# Altium footprint library Elreg_OCXO_Test_Board.PcbLib: 25 footprints (part 1 of 2)
Each footprint in its own frame and in the unit in brackets; x right, y up, seen from the top. Pads: shape width x height; smd on the part's side, far side on the other; paste and mask are expansions set on the pad; w line width, h text height; cw(c..) or ccw(c..) is an arc to the next point about the centre after c.
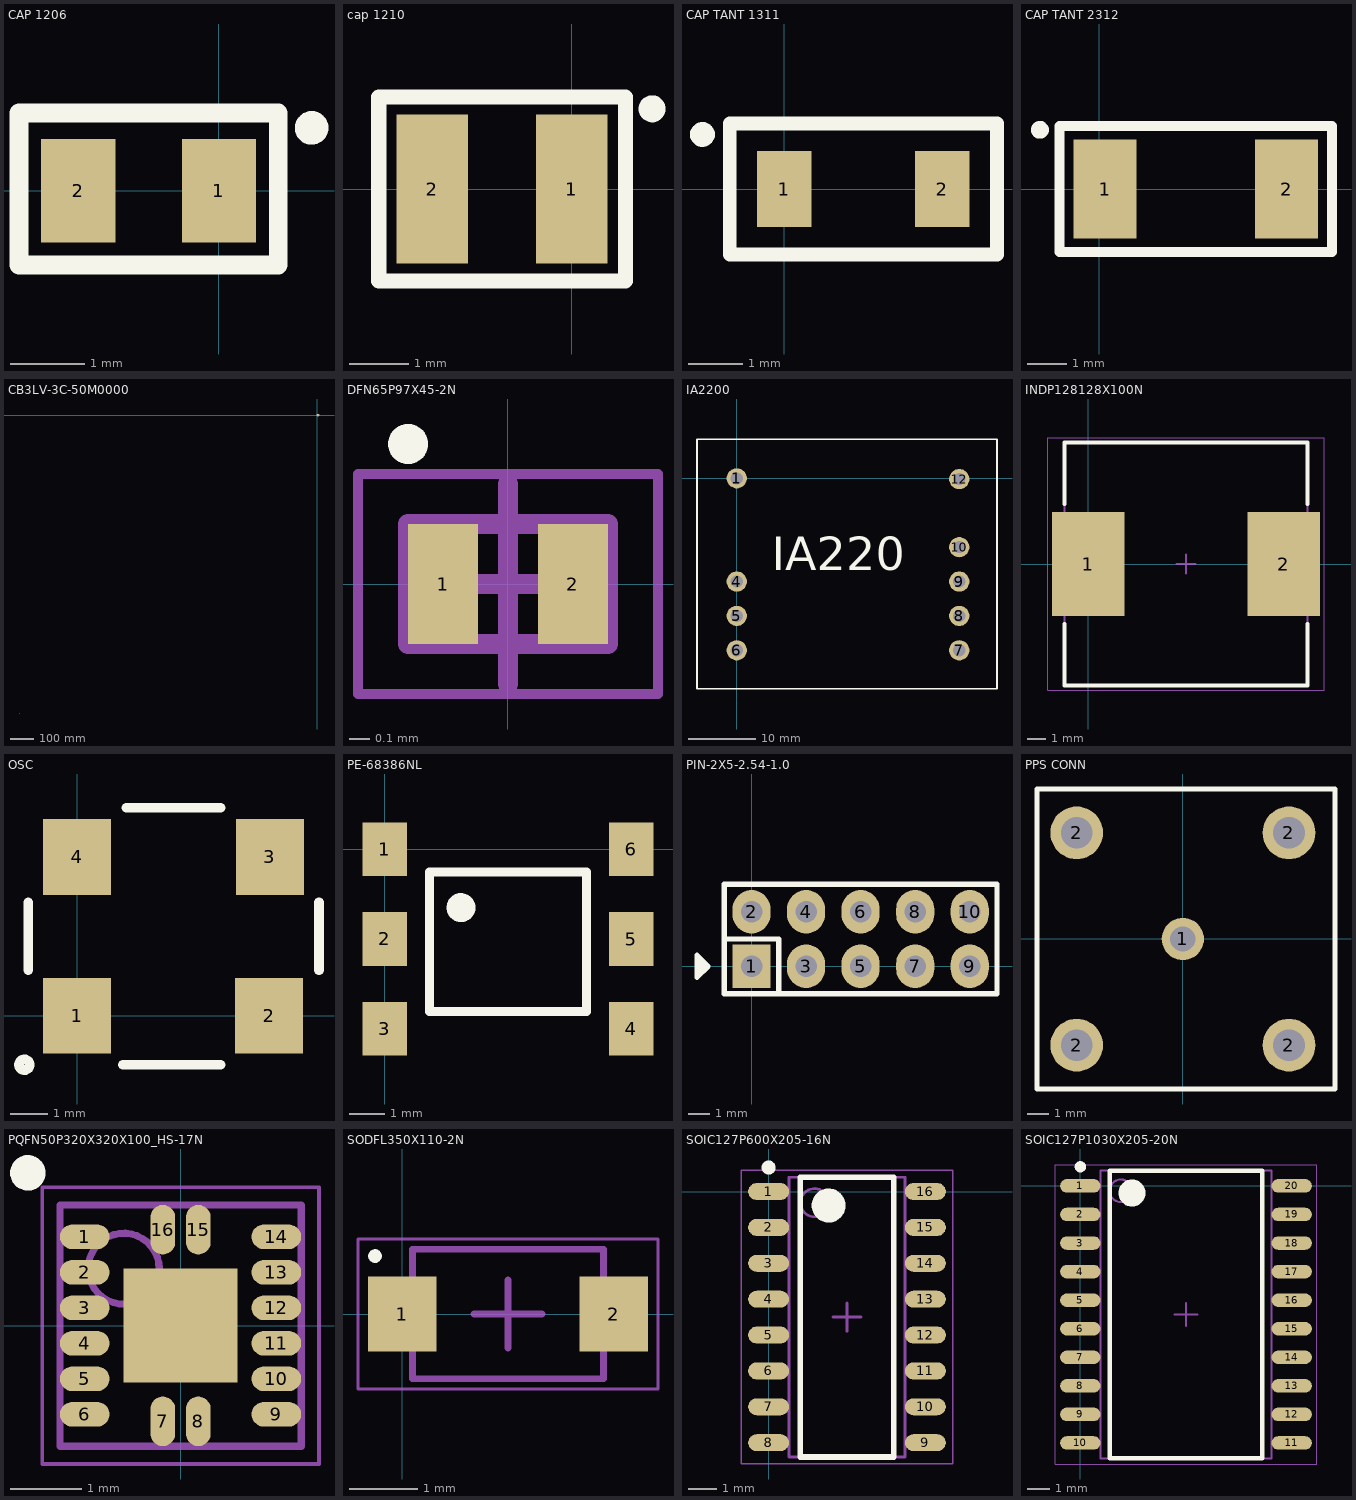
[diagram p0: the footprints below, top view; thin cyan lines are the x and y axes]

## CAP 1206 [mm]
pads (2):
  rect 1x1.4 smd: 1(0,0) 2(-1.9,0)
Top Overlay:
  circle w0.254: c1.25,0.85 r0.1
  lines w0.254: -2.7,-1 -2.7,1.05 0.8,1.05 0.8,-1 -2.7,-1

## cap 1210 [mm]
pads (2):
  rect 1.2x2.5 smd: 1(0,0) 2(-2.35,0)
Top Overlay:
  circle w0.254: c1.35,1.35 r0.1
  lines w0.254: -3.25,-1.55 -3.25,1.55 0.9,1.55 0.9,-1.55 -3.25,-1.55

## CAP TANT 1311 [mm]
pads (2):
  rect 1x1.4 smd: 1(0,0) 2(2.9,0)
Top Overlay:
  circle w0.254: c-1.5,1 r0.1
  lines w0.254: -1,-1.2 -1,1.2 3.9,1.2 3.9,-1.2 -1,-1.2
3D body "75389.stp": height 2.11, standoff 0.01, extent -0.45,-1.5 3.25,1.5

## CAP TANT 2312 [mm]
pads (2):
  rect 1.6x2.5 smd: 1(0.15,0) 2(4.75,0)
Top Overlay:
  circle w0.254: c-1.5,1.5 r0.1
  lines w0.254: -1,-1.6 -1,1.6 5.9,1.6 5.9,-1.6 -1,-1.6
3D body "User Library-AVX_C_CASE.step": height 2.7, standoff 0, extent -0.65,-1.675 5.45,1.675

## CB3LV-3C-50M0000 [mm]
pads (6):
  rect 0.4x0.7 all layers, no hole: 1(-1260.3,-1259.3) 2(-1259.6,-1259.3)
  rect 1.8x2 smd: 1(0,0) 2(5.08,0) 3(5.1,4.2) 4(0,4.2)
Top Overlay:
  circle w0.254: c-1.4,-1.3 r0.141
  lines w0.254: -1260.1,-1259.9 -1259.8,-1259.9 ; -1260.1,-1258.7 -1259.8,-1258.7 ; -1.3,1.2 -1.3,3 ; 1.2,-1.3 3.8,-1.3 ; 1.3,5.5 3.8,5.5 ; 6.4,1.2 6.4,3
3D body "User Library-ECS-3951.step": height 1.7, standoff 0, extent -0.9,-0.401 6.1,4.601

## DFN65P97X45-2N [mm] "DFN, 2-Leads, Body 0.58x0.97mm, Pitch 0.65mm, IPC Medium Density"
height 0.45
pads (2):
  rect 0.35x0.6 smd: 1(-0.325,0) 2(0.325,0)
Top Overlay:
  circle w0.1: c-0.5,0.7 r0.05
Mechanical 13:
  lines w0.1: -0.5,-0.3 -0.5,0.3 0.5,0.3 0.5,-0.3 -0.5,-0.3
Mechanical 15:
  lines w0.05: -0.75,-0.55 -0.75,0.55 0.75,0.55 0.75,-0.55 -0.75,-0.55
  lines w0.1: -0.5,0 0.5,0 ; 0,-0.5 0,0.5
3D body: height 0.45, standoff 0, extent -0.5,-0.3 0.5,0.3

## IA2200 [mm]
pads (9):
  round 3 hole 1.8: 1(0,0) 4(0,-15.3) 5(0,-20.4) 6(0,-25.5) 7(33,-25.5) 8(33,-20.4) 9(33,-15.3) 10(33,-10.2) 12(33,-0.1)
Top Overlay:
  lines w0.254: -5.9,-31.2 -5.9,5.8 30.8,5.8 38.6,5.8 38.6,-31.2 -5.9,-31.2
  text "IA220" at 5.2,-13.6 h5

## INDP128128X100N [mm] "Precision Wire Wound Inductor, 2-Leads, Body 12.80x12.80mm, IPC Medium Density"
height 10
pads (2):
  rect 3.8x5.5 smd: 1(0,0) 2(10.3,0)
Top Overlay:
  lines w0.2: -1.25,-3.15 -1.25,-6.4 11.55,-6.4 11.55,-3.15 ; -1.25,3.15 -1.25,6.4 11.55,6.4 11.55,3.15
Mechanical 13:
  lines w0.1: -1.25,-6.4 -1.25,6.4 11.55,6.4 11.55,-6.4 -1.25,-6.4
Mechanical 15:
  lines w0.05: -2.125,-6.65 -2.125,6.65 12.425,6.65 12.425,-6.65 -2.125,-6.65
  lines w0.1: 4.65,0 5.65,0 ; 5.15,-0.5 5.15,0.5
3D body "Coilcraft-MSS1038.step": height 3.9, standoff -0.1, extent 0.1,-5 10.4,5.2

## OSC [mm]
pads (4):
  rect 1.8x2 smd: 1(0,0) 2(5.08,0) 3(5.1,4.2) 4(0,4.2)
Top Overlay:
  circle w0.254: c-1.4,-1.3 r0.141
  lines w0.254: -1.3,1.2 -1.3,3 ; 1.2,-1.3 3.8,-1.3 ; 1.3,5.5 3.8,5.5 ; 6.4,1.2 6.4,3
3D body "User Library-ECS-3951.step": height 1.7, standoff 0, extent -0.9,-0.401 6.1,4.601

## PE-68386NL [mm]
pads (6):
  rect 1.27x1.52 smd: 1(0,0) 2(0,-2.54) 3(0,-5.08) 4(6.985,-5.08) 5(6.985,-2.54) 6(6.985,0)
Top Overlay:
  circle w0.254: c2.159,-1.651 r0.284
  lines w0.254: 2.032,-1.651 2.443,-1.651 2.286,-1.651 2.159,-1.778 ; 2.159,-1.524 2.159,-1.397 ; 2.159,-1.778 2.159,-1.905 2.159,-1.778 ; 1.27,-4.6 5.715,-4.6 5.715,-0.635 1.27,-0.635 1.27,-4.6

## PIN-2X5-2.54-1.0 [mil] "Pin Header"
height 374.02
pads (10):
  rect 70x80 hole 39.37: 1(0,0)
  oval 70x80 hole 39.37: 2(0,100) 3(100,0) 4(100,100) 5(200,0) 6(200,100) 7(300,0) 8(300,100) 9(400,0) 10(400,100)
Top Overlay:
  lines w10: -90,-10 -90,10 ; -50,50 50,50 50,-50 ; -100,-20 -100,20 -80,0 -100,-20 ; -50,-50 450,-50 450,150 -50,150 -50,-50
3D body "PIN2X5_100mils.STEP": height 397.64, standoff -59.06, extent -50,-50 450,150

## PPS CONN [mm]
pads (5):
  round 2 hole 1.2: 1(0,0)
  round 2.5 hole 1.5: 2(-5.025,-5.025) 2(-5.025,5.025) 2(5.025,-5.025) 2(5.025,5.025)
Top Overlay:
  lines w0.254: -6.9,-7.1 -6.9,7.1 7.2,7.1 7.2,-7.1 -6.9,-7.1
3D body "1274572-1.stp": height 10.51, standoff -4.57, extent -3.872,-11.567 3.672,3.8

## PQFN50P320X320X100_HS-17N [mm] "PQFN, 16-Leads, Body 3.20x3.20mm, Pitch 0.50mm, Thermal Pad 1.60x1.60mm, IPC Medium Density"
height 1
pads (17):
  oval 0.7x0.35 smd: 1(-1.35,1.25) 2(-1.35,0.75) 3(-1.35,0.25) 4(-1.35,-0.25) 5(-1.35,-0.75) 6(-1.35,-1.25) 9(1.35,-1.25) 10(1.35,-0.75) 11(1.35,-0.25) 12(1.35,0.25) 13(1.35,0.75) 14(1.35,1.25)
  oval 0.35x0.7 smd: 7(-0.25,-1.35) 8(0.25,-1.35) 15(0.25,1.35) 16(-0.25,1.35)
  rect 1.6x1.6 smd: ""(0,0)
Top Overlay:
  circle w0.25: c-2.15,2.15 r0.125
Mechanical 13:
  circle w0.1: c-0.8,0.8 r0.5
  lines w0.1: -1.7,-1.7 1.7,-1.7 1.7,1.7 -1.7,1.7 -1.7,-1.7
Mechanical 15:
  lines w0.05: -1.95,-1.95 1.95,-1.95 1.95,1.95 -1.95,1.95 -1.95,-1.95
  lines w0.1: -0.5,0 0.5,0 ; 0,-0.5 0,0.5
3D body: height 1, standoff 0, extent -1.7,-1.7 1.7,1.7

## SODFL350X110-2N [mm] "SODFL, 2-Leads, Body 1.70x3.50mm, IPC Medium Density"
height 1.1
pads (2):
  rect 1x1.1 smd: 1(0,0) 2(3.1,0)
Top Overlay:
  circle w0.1: c-0.4,0.85 r0.05
Mechanical 13:
  lines w0.1: 0.15,-0.95 2.95,-0.95 2.95,0.95 0.15,0.95 0.15,-0.95
Mechanical 15:
  lines w0.05: -0.65,-1.1 3.75,-1.1 3.75,1.1 -0.65,1.1 -0.65,-1.1
  lines w0.1: 1.05,0 2.05,0 ; 1.55,-0.5 1.55,0.5
3D body: height 1.1, standoff 0, extent 0.15,-0.95 2.95,0.95

## SOIC127P600X205-16N [mm] "SOIC, 16-Leads, Body 10.05x3.90mm, Pitch 1.27mm, IPC Medium Density"
height 2.05
pads (16):
  oval 1.45x0.6 smd: 1(0,0) 2(0,-1.27) 3(0,-2.54) 4(0,-3.81) 5(0,-5.08) 6(0,-6.35) 7(0,-7.62) 8(0,-8.89) 9(5.55,-8.89) 10(5.55,-7.62) 11(5.55,-6.35) 12(5.55,-5.08) 13(5.55,-3.81) 14(5.55,-2.54) 15(5.55,-1.27) 16(5.55,0)
Top Overlay:
  circle w0.25: c0,0.85 r0.125
  circle w0.6: c2.125,-0.495 r0.3
  lines w0.2: 1.125,-9.395 1.125,0.505 4.425,0.505 4.425,-9.395 1.125,-9.395
Mechanical 13:
  circle w0.1: c1.625,-0.395 r0.5
  lines w0.1: 0.725,-9.395 0.725,0.505 4.825,0.505 4.825,-9.395 0.725,-9.395
Mechanical 15:
  lines w0.05: -0.975,-9.645 -0.975,0.755 6.525,0.755 6.525,-9.645 -0.975,-9.645
  lines w0.1: 2.275,-4.445 3.275,-4.445 ; 2.775,-4.945 2.775,-3.945
3D body "User Library-SOIC127P600X175-16.step": height 1.65, standoff 0, extent -0.365,-9.445 5.715,0.555

## SOIC127P1030X205-20N [mm] "SOIC, 20-Leads, Body 12.80x7.50mm, Pitch 1.27mm, IPC Medium Density"
height 2.05
pads (20):
  oval 1.8x0.6 smd: 1(0,0) 2(0,-1.27) 3(0,-2.54) 4(0,-3.81) 5(0,-5.08) 6(0,-6.35) 7(0,-7.62) 8(0,-8.89) 9(0,-10.16) 10(0,-11.43) 11(9.4,-11.43) 12(9.4,-10.16) 13(9.4,-8.89) 14(9.4,-7.62) 15(9.4,-6.35) 16(9.4,-5.08) 17(9.4,-3.81) 18(9.4,-2.54) 19(9.4,-1.27) 20(9.4,0)
Top Overlay:
  circle w0.25: c0,0.85 r0.125
  circle w0.6: c2.3,-0.315 r0.3
  lines w0.2: 1.3,-12.115 1.3,0.685 8.1,0.685 8.1,-12.115 1.3,-12.115
Mechanical 13:
  circle w0.1: c1.8,-0.215 r0.5
  lines w0.1: 0.9,-12.115 0.9,0.685 8.5,0.685 8.5,-12.115 0.9,-12.115
Mechanical 15:
  lines w0.05: -1.125,-12.365 -1.125,0.935 10.525,0.935 10.525,-12.365 -1.125,-12.365
  lines w0.1: 4.2,-5.715 5.2,-5.715 ; 4.7,-6.215 4.7,-5.215
3D body "User Library-SOIC_20-300.STEP": height 2.6, standoff 0, extent -0.4,-12.015 10,0.585